# Altium integrated library MergenElektronik_Sensors_CurrentSensors.IntLib: 1 symbol
Pins are listed as number, name and electrical type; pins without a type are passive.

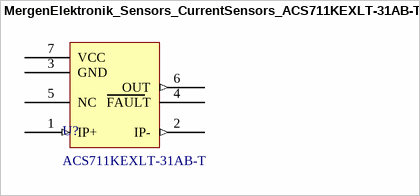
[diagram p0: symbol MergenElektronik_Sensors_CurrentSensors_ACS711KEXLT-31AB-T]

## MergenElektronik_Sensors_CurrentSensors_ACS711KEXLT-31AB-T
designator U?, comment ACS711KEXLT-31AB-T
Mergen Elektronik - Sensors - Current Sensors - ACS711KEXLT-31AB-T; Manufacturer: Allegro MicroSystems; Current Rating: 31A; Accuracy: ±5%; Operating Supply  Voltage: 3V up to 5.5V; Number of Channel: 1; Measuring: AC/DC; Sensor Type: Hall Effect; Digi-Key Number: 620-1482-1-ND; Manufacturer Number: ACS711KEXLT-31AB-T; Model: Current Sensor; Mounting Type: Surface Mount; Package: ACS711KEXLT-31AB-T; Mouser Number: 250-711KEXLT31ABT; Temperature: -40°C up to +125°C; Value: ACS711KEXLT-31AB-T; Özdisan Number: ACS711KEXLT-31AB-T; Farnell Number: 3594556; Supplier 1: Digi-Key; Supplier Part Number 1: 620-1482-1-ND; Supplier 2: Mouser; Supplier Part Number 2: 250-711KEXLT31ABT
footprint MergenElektronik_Sensors_CurrentSensors_ACS711KEXLT-31AB-T (ACS711KEXLT-31AB-T)
pins: 1 IP+ (in), 2 IP- (out), 3 GND (power), 4 FAULT, 5 NC, 6 OUT (out), 7 VCC (power)